# Altium schematic symbol library DMG1012UW-7.SchLib: 1 symbol
Pins are listed as number, name and electrical type; pins without a type are passive.

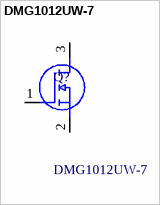
[diagram p0: symbol DMG1012UW-7]

## DMG1012UW-7
designator Q?
MOSFET N-Channel 20V 1A SOT323 Diodes Inc DMG1012UW-7 N-channel MOSFET Transistor, 1 A, 20 V, 3-Pin SOT-323; Manufacturer_Name: Diodes Incorporated; Geometry.Height: 1.1mm; Manufacturer_Part_Number: DMG1012UW-7; Mouser Part Number: 621-DMG1012UW-7; Mouser Price/Stock: https://www.mouser.co.uk/ProductDetail/Diodes-Incorporated/DMG1012UW-7?qs=vIZ3oKQCLxp8XxWFc0YBWg%3D%3D; Arrow Part Number: DMG1012UW-7; Arrow Price/Stock: https://www.arrow.com/en/products/dmg1012uw-7/diodes-incorporated?utm_currency=USD&region=europe; Datasheet Link: https://www.diodes.com//assets/Datasheets/DMG1012UW.pdf
footprint SOT65P222X110-3N
pins: 1 G, 2 S, 3 D